# Altium footprint library EISI.PcbLib: 695 footprints (part 32 of 44)
Each footprint in its own frame and in the unit in brackets; x right, y up, seen from the top. Pads: shape width x height; smd on the part's side, far side on the other; paste and mask are expansions set on the pad; w line width, h text height; cw(c..) or ccw(c..) is an arc to the next point about the centre after c.
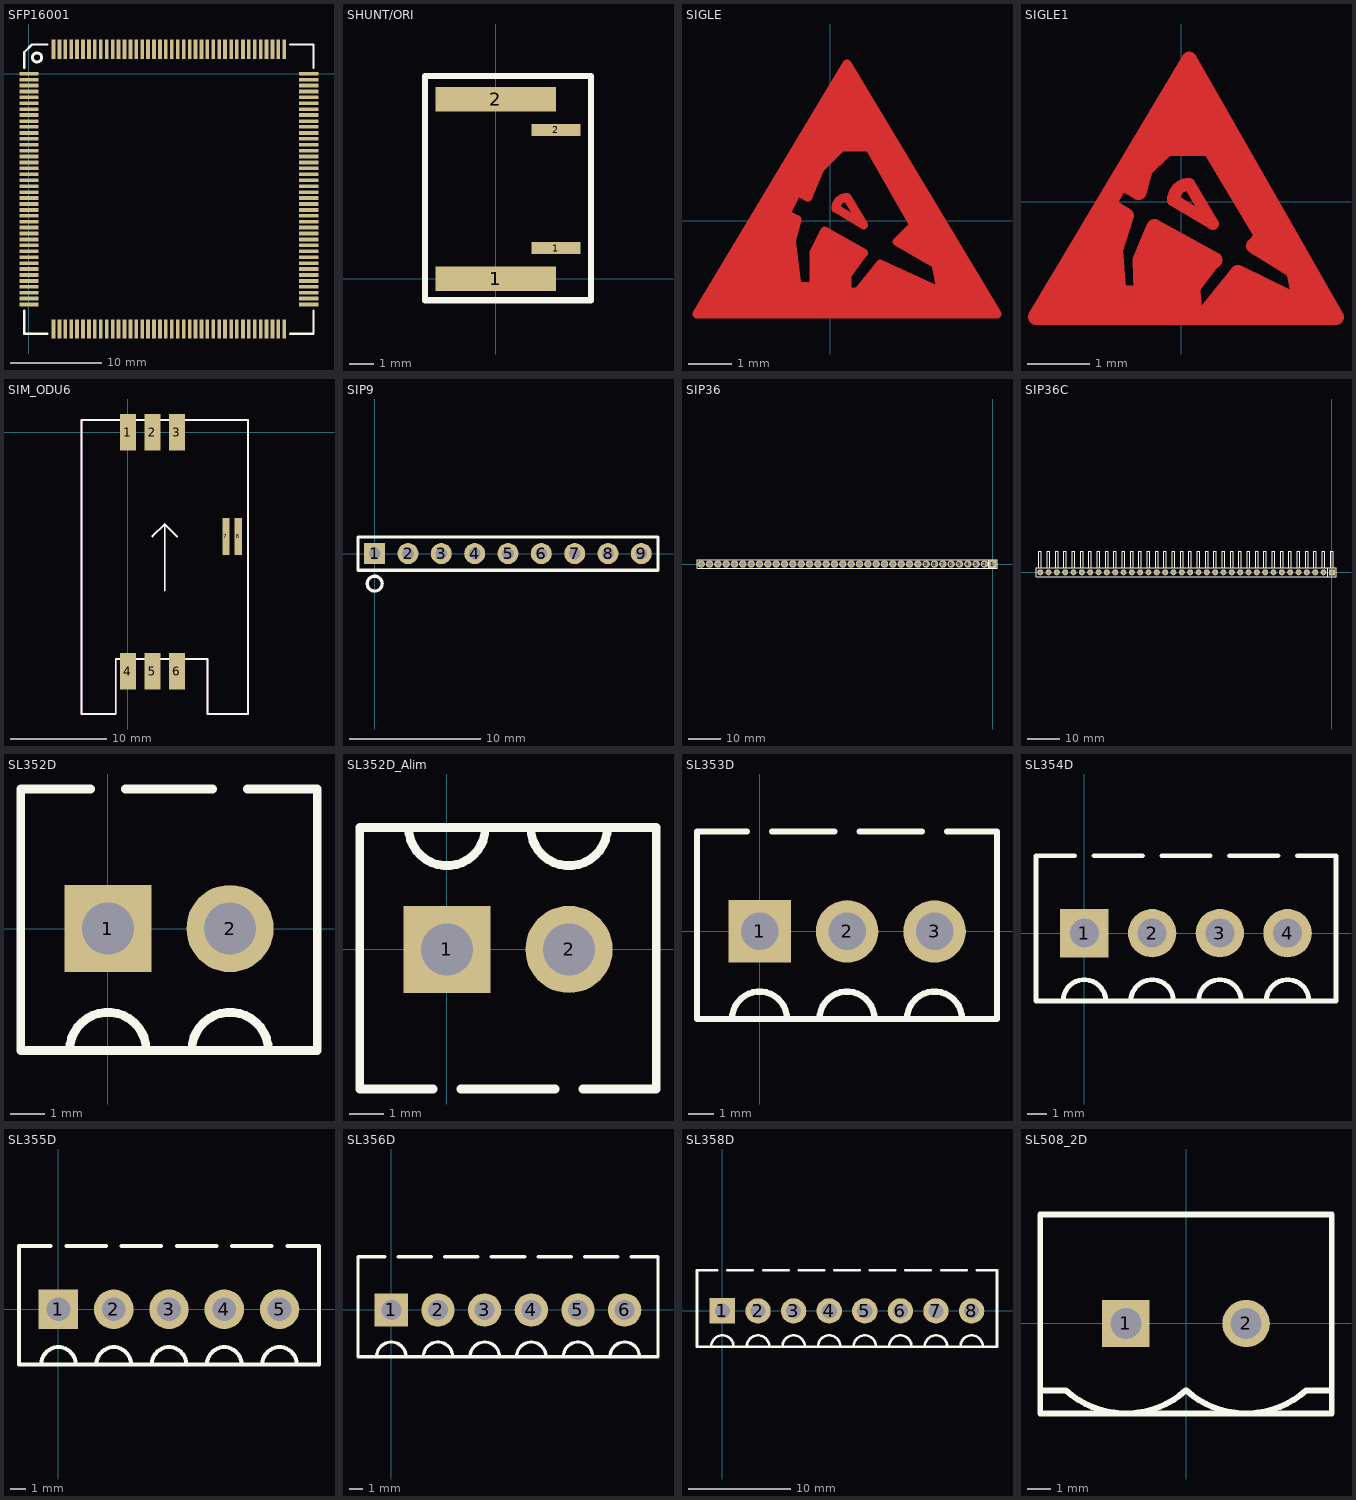
[diagram p31: the footprints below, top view; thin cyan lines are the x and y axes]

## SFP16001 [mil]
pads (320):
  rect 83x16 smd: 1(0,0) 2(0,-26) 3(0,-51) 4(0,-77) 5(0,-102) 6(0,-128) 7(0,-154) 8(0,-179) 9(0,-205) 10(0,-230) 11(0,-256) 12(0,-281) 13(0,-307) 14(0,-333) 15(0,-358) 16(0,-384) 17(0,-409) 18(0,-435) 19(0,-461) 20(0,-486) 21(0,-512) 22(0,-537) 23(0,-563) 24(0,-589) 25(0,-614) 26(0,-640) 27(0,-665) 28(0,-691) 29(0,-717) 30(0,-742) 31(0,-768) 32(0,-793) 33(0,-819) 34(0,-844) 35(0,-870) 36(0,-896) 37(0,-921) 38(0,-947) 39(0,-972) 40(0,-998) 81(1210,-998) 82(1210,-972) 83(1210,-947) 84(1210,-921) 85(1210,-896) 86(1210,-870) 87(1210,-844) 88(1210,-819) 89(1210,-793) 90(1210,-768) 91(1210,-742) 92(1210,-717) 93(1210,-691) 94(1210,-665) 95(1210,-640) 96(1210,-614) 97(1210,-589) 98(1210,-563) 99(1210,-537) 100(1210,-512) 101(1210,-486) 102(1210,-461) 103(1210,-435) 104(1210,-409) 105(1210,-384) 106(1210,-358) 107(1210,-333) 108(1210,-307) 109(1210,-281) 110(1210,-256) 111(1210,-230) 112(1210,-205) 113(1210,-179) 114(1210,-154) 115(1210,-128) 116(1210,-102) 117(1210,-77) 118(1210,-51) 119(1210,-26) 120(1210,0)
  rect 16x83 smd: 41(106,-1104) 42(132,-1104) 43(157,-1104) 44(183,-1104) 45(208,-1104) 46(234,-1104) 47(260,-1104) 48(285,-1104) 49(311,-1104) 50(336,-1104) 51(362,-1104) 52(387,-1104) 53(413,-1104) 54(439,-1104) 55(464,-1104) 56(490,-1104) 57(515,-1104) 58(541,-1104) 59(567,-1104) 60(592,-1104) 61(618,-1104) 62(643,-1104) 63(669,-1104) 64(695,-1104) 65(720,-1104) 66(746,-1104) 67(771,-1104) 68(797,-1104) 69(823,-1104) 70(848,-1104) 71(874,-1104) 72(899,-1104) 73(925,-1104) 74(950,-1104) 75(976,-1104) 76(1002,-1104) 77(1027,-1104) 78(1053,-1104) 79(1078,-1104) 80(1104,-1104) 121(1104,106) 122(1078,106) 123(1053,106) 124(1027,106) 125(1002,106) 126(976,106) 127(950,106) 128(925,106) 129(899,106) 130(874,106) 131(848,106) 132(823,106) 133(797,106) 134(771,106) 135(746,106) 136(720,106) 137(695,106) 138(669,106) 139(643,106) 140(618,106) 141(592,106) 142(567,106) 143(541,106) 144(515,106) 145(490,106) 146(464,106) 147(439,106) 148(413,106) 149(387,106) 150(362,106) 151(336,106) 152(311,106) 153(285,106) 154(260,106) 155(234,106) 156(208,106) 157(183,106) 158(157,106) 159(132,106) 160(106,106)
  rect 60x12 on Top Paste: ""(7.87,-998) ""(7.87,-972) ""(7.87,-947) ""(7.87,-921) ""(7.87,-896) ""(7.87,-870) ""(7.87,-844) ""(7.87,-819) ""(7.87,-793) ""(7.87,-768) ""(7.87,-742) ""(7.87,-717) ""(7.87,-691) ""(7.87,-665) ""(7.87,-640) ""(7.87,-614) ""(7.87,-589) ""(7.87,-563) ""(7.87,-537) ""(7.87,-512) ""(7.87,-486) ""(7.87,-461) ""(7.87,-435) ""(7.87,-409) ""(7.87,-384) ""(7.87,-358) ""(7.87,-333) ""(7.87,-307) ""(7.87,-281) ""(7.87,-256) ""(7.87,-230) ""(7.87,-205) ""(7.87,-179) ""(7.87,-154) ""(7.87,-128) ""(7.87,-102) ""(7.87,-77) ""(7.87,-51) ""(7.87,-26) ""(7.87,0) ""(1202.13,-998) ""(1202.13,-972) ""(1202.13,-947) ""(1202.13,-921) ""(1202.13,-896) ""(1202.13,-870) ""(1202.13,-844) ""(1202.13,-819) ""(1202.13,-793) ""(1202.13,-768) ""(1202.13,-742) ""(1202.13,-717) ""(1202.13,-691) ""(1202.13,-665) ""(1202.13,-640) ""(1202.13,-614) ""(1202.13,-589) ""(1202.13,-563) ""(1202.13,-537) ""(1202.13,-512) ""(1202.13,-486) ""(1202.13,-461) ""(1202.13,-435) ""(1202.13,-409) ""(1202.13,-384) ""(1202.13,-358) ""(1202.13,-333) ""(1202.13,-307) ""(1202.13,-281) ""(1202.13,-256) ""(1202.13,-230) ""(1202.13,-205) ""(1202.13,-179) ""(1202.13,-154) ""(1202.13,-128) ""(1202.13,-102) ""(1202.13,-77) ""(1202.13,-51) ""(1202.13,-26) ""(1202.13,0)
  rect 12x60 on Top Paste: ""(106,-1096.13) ""(106,98.13) ""(132,-1096.13) ""(132,98.13) ""(157,-1096.13) ""(157,98.13) ""(183,-1096.13) ""(183,98.13) ""(208,-1096.13) ""(208,98.13) ""(234,-1096.13) ""(234,98.13) ""(260,-1096.13) ""(260,98.13) ""(285,-1096.13) ""(285,98.13) ""(311,-1096.13) ""(311,98.13) ""(336,-1096.13) ""(336,98.13) ""(362,-1096.13) ""(362,98.13) ""(387,-1096.13) ""(387,98.13) ""(413,-1096.13) ""(413,98.13) ""(439,-1096.13) ""(439,98.13) ""(464,-1096.13) ""(464,98.13) ""(490,-1096.13) ""(490,98.13) ""(515,-1096.13) ""(515,98.13) ""(541,-1096.13) ""(541,98.13) ""(567,-1096.13) ""(567,98.13) ""(592,-1096.13) ""(592,98.13) ""(618,-1096.13) ""(618,98.13) ""(643,-1096.13) ""(643,98.13) ""(669,-1096.13) ""(669,98.13) ""(695,-1096.13) ""(695,98.13) ""(720,-1096.13) ""(720,98.13) ""(746,-1096.13) ""(746,98.13) ""(771,-1096.13) ""(771,98.13) ""(797,-1096.13) ""(797,98.13) ""(823,-1096.13) ""(823,98.13) ""(848,-1096.13) ""(848,98.13) ""(874,-1096.13) ""(874,98.13) ""(899,-1096.13) ""(899,98.13) ""(925,-1096.13) ""(925,98.13) ""(950,-1096.13) ""(950,98.13) ""(976,-1096.13) ""(976,98.13) ""(1002,-1096.13) ""(1002,98.13) ""(1027,-1096.13) ""(1027,98.13) ""(1053,-1096.13) ""(1053,98.13) ""(1078,-1096.13) ""(1078,98.13) ""(1104,-1096.13) ""(1104,98.13)
TopOverlay:
  circle w12: c35,70 r20
  lines w10: -20,-1024 -20,-1124 80,-1124 ; -20,26 -20,93 13,126 80,126 ; 1130,-1124 1230,-1124 1230,-1024 ; 1130,126 1230,126 1230,26
TopSolder:
  rectangle: 96,-1147 1114,-1060
  rectangle: -43,-1008 43,10
  rectangle: 96,63 1114,150
  rectangle: 1166,-1008 1254,10

## SHUNT/ORI [mil]
pads (4):
  rect 196x40 smd: 1(0,0) 2(0,292)
  rect 80x20 smd: 1(98,50) 2(98,242)
TopOverlay:
  lines w10: -115,-35 155,-35 155,330 -115,330 -115,-35

## SIGLE [mm]
TopLayer:
  lines w0.2: -2.667,-1.88 3.302,-1.88 ; -2.54,-1.88 0.381,3.073 ; -1.651,-1.245 -1.524,-1.499 ; -1.524,-1.118 -1.397,-1.372 ; -1.397,-0.864 -1.27,-1.499 -1.778,-1.499 -1.397,-0.737 ; -1.27,-0.483 -1.143,-1.626 -2.032,-1.626 -1.143,-0.102 -1.016,-0.102 -1.143,-0.229 -1.016,-1.753 ; -1.27,0.152 -0.889,-0.102 -1.016,-0.356 -0.889,-1.626 0.254,-1.626 0.254,-1.245 0.635,-0.737 -0.127,-0.356 -0.254,-0.737 -0.127,-1.499 ; -1.016,0.406 -2.286,-1.753 1.905,-1.753 3.302,-1.753 0.508,2.946 ; -1.016,0.533 0.381,2.819 ; -0.635,0.66 -0.381,1.041 ; -0.254,-1.499 -0.254,-0.991 ; -0.254,1.295 0.635,2.565 ; -0.127,-0.483 0,-1.626 ; 0,-0.483 0.127,-1.499 ; 0.127,-0.61 0.254,-1.118 ; 0.127,0.279 0.762,-0.102 0.381,0.533 ; 0.127,1.803 0.889,1.803 ; 0.254,-0.61 0.381,-0.991 ; 0.254,1.93 0.762,1.93 ; 0.381,-0.737 0.508,-0.864 ; 0.381,2.057 0.762,2.057 ; 0.381,2.946 1.143,1.676 3.048,-1.626 ; 0.508,2.184 0.635,2.184 0.635,2.311 ; 0.508,2.692 -0.762,0.66 ; 0.762,-1.753 1.143,-1.118 2.54,-1.753 ; 0.889,-1.626 1.651,-1.626 ; 0.889,1.93 2.159,-0.356 2.921,-1.753 ; 1.016,-1.499 1.524,-1.499 ; 1.143,-1.372 1.27,-1.372 ; 1.143,-1.245 2.159,-1.753 ; 1.778,-0.483 2.286,-0.737 ; 1.778,-0.356 2.159,-0.483 ; 1.905,-0.229 2.032,-0.356 ; 2.54,-1.372 2.667,-1.753 ; 2.667,-1.372 2.794,-1.626 ; -0.762,0.66 -1.016,0.152 -0.762,0.025 -0.889,-0.483 -0.762,-1.499 -0.381,-1.499 -0.381,-0.991 -0.381,-0.737 -0.127,-0.229 0.762,-0.737 0.381,-1.245 0.381,-1.626 0.635,-1.626 1.143,-0.991 2.54,-1.626 2.413,-0.991 1.524,-0.483 1.905,-0.102 0.889,1.676 0.254,1.676 -0.254,1.168 -0.508,0.533 -0.762,0.66 ; -3.048,-2.134 3.81,-2.134 0.381,3.581 -3.048,-2.134 ; -2.794,-2.007 3.556,-2.007 0.381,3.327 -2.794,-2.007
  lines w0.203: 0.127,0.279 cw(c0.381,0.279) 0.381,0.533

## SIGLE1 [mm]
TopLayer:
  lines w0.2: -1.397,-0.483 -1.27,-0.356 -1.397,-0.356 ; -1.27,-0.61 -1.143,-0.356 ; -0.889,0.406 -0.635,0.787 ; -0.508,-1.753 -0.508,-1.245 ; -0.381,-1.753 -0.508,-0.991 -0.381,-0.61 0.381,-0.991 0,-1.499 ; -0.254,-0.737 -0.127,-1.753 ; -0.127,-0.864 0,-1.372 ; -0.127,0.025 0.508,-0.356 0.127,0.279 ; 0,-0.864 0.127,-1.245 ; 0.127,-1.499 0.508,-0.991 -0.381,-0.483 -0.635,-0.991 -0.635,-1.245 -0.635,-1.753 -1.016,-1.753 -1.143,-0.737 -1.016,-0.229 -1.27,-0.102 -1.016,0.406 -0.762,0.279 -0.508,0.914 0,1.422 0.635,1.422 ; 0.127,-0.991 0.254,-1.118 ; 0.381,-1.88 0.889,-1.245 2.286,-1.88 ; 0.762,-1.753 1.27,-1.753 ; 0.889,-1.626 1.016,-1.626 ; 1.27,-0.737 1.651,-0.356
  lines w0.203: -0.127,0.025 cw(c0.127,0.025) 0.127,0.279
  lines w0.254: -1.905,-1.524 -1.473,-1.499 ; -1.854,-1.473 -1.524,-1.092 ; -1.549,-1.295 -1.524,-1.499 ; -1.524,-0.787 -1.397,-1.524 ; -1.346,-0.61 -1.194,-1.702 -2.21,-1.702 -1.27,-0.279 ; -1.219,-0.025 -0.889,-0.229 -1.067,-0.787 -0.991,-1.676 -0.737,-1.676 -0.635,-1.676 -0.66,-0.94 -0.432,-0.406 0.533,-0.94 0.152,-1.245 ; -1.194,-0.102 -0.991,0.305 ; -1.016,0.33 -0.686,0.152 -0.66,0.254 -0.508,0.787 ; -0.991,-1.473 -0.483,-1.473 ; -0.914,0.508 0.127,2.21 ; -0.66,0.635 -0.127,1.143 0.61,1.143 ; -0.635,0.483 -0.229,0.864 0.457,0.864 1.295,-0.533 ; -0.635,0.762 0,1.397 ; -0.406,-0.864 -0.279,-1.676 ; -0.381,1.016 0.559,1.041 ; -0.254,1.27 0.635,1.27 ; -0.203,1.295 0.203,2.083 ; 0,-1.702 0.025,-1.499 ; 0.076,1.448 0.102,1.854 ; 0.127,1.854 0.33,1.473 ; 0.178,-1.321 0.203,-1.753 ; 0.381,-1.803 0.914,-1.143 2.108,-1.727 ; 0.483,1.245 1.397,-0.406 ; 0.584,1.346 1.346,0.076 1.575,-0.305 ; 0.66,-1.727 1.626,-1.727 0.94,-1.473 0.66,-1.626 ; 1.422,-0.635 1.676,-0.813 ; 1.499,-0.356 1.168,-0.711 2.032,-1.245 ; 1.524,-0.508 2.235,-1.727 ; 1.829,-1.168 1.905,-1.575 ; -2.337,-1.854 2.489,-1.854 0.127,2.286 -2.337,-1.854

## SIM_ODU6 [mil]
pads (8):
  rect 65x150 smd: 1(0.29,-0.26) 2(100.29,-0.26) 3(200.29,-0.26) 4(0.29,-975.26) 5(100.29,-975.26) 6(200.29,-975.26)
  rect 30x150 smd: 7(400.29,-425.26) 8(450.29,-425.26)
TopOverlay:
  lines w7.87: 100.29,-425.26 150.29,-375.26 ; 150.29,-645.26 150.29,-375.26 ; 200.29,-425.26 150.29,-375.26 ; -189.71,-1150.26 -49.71,-1150.26 -49.71,-925.26 325.29,-925.26 325.29,-1150.26 490.29,-1150.26 490.29,-1090.26 490.29,49.74 -189.71,49.74 -189.71,-1150.26
  text ".Designator" at 0.29,-362.76 h56.25
Mechanical1:
  lines w7.87: 100.29,-425.26 150.29,-375.26 ; 100.29,-425.26 150.29,-375.26 ; 100.29,-425.26 150.29,-375.26 ; 150.29,-645.26 150.29,-375.26 ; 150.29,-645.26 150.29,-375.26 ; 150.29,-645.26 150.29,-375.26 ; 150.29,-375.26 200.29,-425.26 ; 150.29,-375.26 200.29,-425.26 ; 150.29,-375.26 200.29,-425.26 ; -189.71,-1150.26 -49.71,-1150.26 -49.71,-925.26 325.29,-925.26 325.29,-1150.26 490.29,-1150.26 490.29,-1090.26 490.29,49.74 -189.71,49.74 -189.71,-1150.26
  text ".Designator" at 0.29,-362.76 h56.25
  text ".Comment" at 0.29,-475.26 h56.25
  text "SM/SCH_ODU6" at -149.71,-700.26 h56.25

## SIP9 [mm] "SIP9"
height 5.08
pads (9):
  rect 1.6x1.6 hole 0.9: 1(0,0)
  round 1.6 hole 0.9: 2(2.54,0) 3(5.08,0) 4(7.62,0) 5(10.16,0) 6(12.7,0) 7(15.24,0) 8(17.78,0) 9(20.32,0)
TopOverlay:
  circle w0.25: c0,-2.286 r0.568
  lines w0.25: -1.27,-1.27 -1.27,1.27 21.59,1.27 21.59,0 21.59,-1.27 -1.27,-1.27

## SIP36 [mm]
pads (36):
  rect 2.3x2.3 hole 1.4 unplated: 1(0,0)
  round 2.3 hole 1.4 unplated: 2(-2.54,0) 3(-5.08,0) 4(-7.62,0) 5(-10.16,0) 6(-12.7,0) 7(-15.24,0) 8(-17.78,0) 9(-20.32,0) 10(-22.86,0) 11(-25.4,0) 12(-27.94,0) 13(-30.48,0) 14(-33.02,0) 15(-35.56,0) 16(-38.1,0) 17(-40.64,0) 18(-43.18,0) 19(-45.72,0) 20(-48.26,0) 21(-50.8,0) 22(-53.34,0) 23(-55.88,0) 24(-58.42,0) 25(-60.96,0) 26(-63.5,0) 27(-66.04,0) 28(-68.58,0) 29(-71.12,0) 30(-73.66,0) 31(-76.2,0) 32(-78.74,0) 33(-81.28,0) 34(-83.82,0) 35(-86.36,0) 36(-88.9,0)
TopOverlay:
  lines w0.2: -1.27,-1.27 -1.27,1.27 ; -90.17,-1.27 -90.17,1.27 -85.09,1.27 -59.69,1.27 -54.61,1.27 -49.53,1.27 1.27,1.27 1.27,-1.27 -49.53,-1.27 -54.61,-1.27 -59.69,-1.27 -85.09,-1.27 -90.17,-1.27

## SIP36C [mm]
pads (36):
  rect 1.8x1.8 hole 0.94 unplated: 1(0,0)
  round 1.8 hole 0.94 unplated: 2(-2.54,0) 3(-5.08,0) 4(-7.62,0) 5(-10.16,0) 6(-12.7,0) 7(-15.24,0) 8(-17.78,0) 9(-20.32,0) 10(-22.86,0) 11(-25.4,0) 12(-27.94,0) 13(-30.48,0) 14(-33.02,0) 15(-35.56,0) 16(-38.1,0) 17(-40.64,0) 18(-43.18,0) 19(-45.72,0) 20(-48.26,0) 21(-50.8,0) 22(-53.34,0) 23(-55.88,0) 24(-58.42,0) 25(-60.96,0) 26(-63.5,0) 27(-66.04,0) 28(-68.58,0) 29(-71.12,0) 30(-73.66,0) 31(-76.2,0) 32(-78.74,0) 33(-81.28,0) 34(-83.82,0) 35(-86.36,0) 36(-88.9,0)
TopOverlay:
  lines w0.2: -89.281,1.397 -89.281,6.477 -88.519,6.477 -88.519,1.397 ; -86.741,1.397 -86.741,6.477 -85.979,6.477 -85.979,1.397 ; -84.201,1.397 -84.201,6.477 -83.439,6.477 -83.439,1.397 ; -81.661,1.397 -81.661,6.477 -80.899,6.477 -80.899,1.397 ; -79.121,1.397 -79.121,6.477 -78.359,6.477 -78.359,1.397 ; -76.581,1.397 -76.581,6.477 -75.819,6.477 -75.819,1.397 ; -74.041,1.397 -74.041,6.477 -73.279,6.477 -73.279,1.397 ; -71.501,1.397 -71.501,6.477 -70.739,6.477 -70.739,1.397 ; -68.961,1.397 -68.961,6.477 -68.199,6.477 -68.199,1.397 ; -66.421,1.397 -66.421,6.477 -65.659,6.477 -65.659,1.397 ; -63.881,1.397 -63.881,6.477 -63.119,6.477 -63.119,1.397 ; -61.341,1.397 -61.341,6.477 -60.579,6.477 -60.579,1.397 ; -58.801,1.397 -58.801,6.477 -58.039,6.477 -58.039,1.397 ; -56.261,1.397 -56.261,6.477 -55.499,6.477 -55.499,1.397 ; -53.721,1.397 -53.721,6.477 -52.959,6.477 -52.959,1.397 ; -51.181,1.397 -51.181,6.477 -50.419,6.477 -50.419,1.397 ; -48.641,1.397 -48.641,6.477 -47.879,6.477 -47.879,1.397 ; -46.101,1.397 -46.101,6.477 -45.339,6.477 -45.339,1.397 ; -43.561,1.397 -43.561,6.477 -42.799,6.477 -42.799,1.397 ; -41.021,1.397 -41.021,6.477 -40.259,6.477 -40.259,1.397 ; -38.481,1.397 -38.481,6.477 -37.719,6.477 -37.719,1.397 ; -35.941,1.397 -35.941,6.477 -35.179,6.477 -35.179,1.397 ; -33.401,1.397 -33.401,6.477 -32.639,6.477 -32.639,1.397 ; -30.861,1.397 -30.861,6.477 -30.099,6.477 -30.099,1.397 ; -28.321,1.397 -28.321,6.477 -27.559,6.477 -27.559,1.397 ; -25.781,1.397 -25.781,6.477 -25.019,6.477 -25.019,1.397 ; -23.241,1.397 -23.241,6.477 -22.479,6.477 -22.479,1.397 ; -20.701,1.397 -20.701,6.477 -19.939,6.477 -19.939,1.397 ; -18.161,1.397 -18.161,6.477 -17.399,6.477 -17.399,1.397 ; -15.621,1.397 -15.621,6.477 -14.859,6.477 -14.859,1.397 ; -13.081,1.397 -13.081,6.477 -12.319,6.477 -12.319,1.397 ; -10.541,1.397 -10.541,6.477 -9.779,6.477 -9.779,1.397 ; -8.001,1.397 -8.001,6.477 -7.239,6.477 -7.239,1.397 ; -5.461,1.397 -5.461,6.477 -4.699,6.477 -4.699,1.397 ; -2.921,1.397 -2.921,6.477 -2.159,6.477 -2.159,1.397 ; -1.27,-1.397 -1.27,1.397 ; -0.381,1.397 -0.381,6.477 0.381,6.477 0.381,1.397 ; -90.17,-1.397 -90.17,1.397 1.27,1.397 1.27,-1.397 -90.17,-1.397

## SL352D [mm]
height 11.1
pads (2):
  rect 2.5x2.5 hole 1.5: 1(0,0)
  round 2.5 hole 1.5: 2(3.5,0)
TopOverlay:
  lines w0.25: -2.5,4 -0.5,4 ; 0.5,4 3,4 ; 4,4 6,4
  lines w0.254: -2.5,4 -2.5,-3.5 6,-3.5 6,4 ; -1.1,-3.5 cw(c0,-3.5) 1.1,-3.5 ; 2.4,-3.5 cw(c3.5,-3.5) 4.6,-3.5

## SL352D_Alim [mm]
height 11.1
pads (2):
  rect 2.5x2.5 hole 1.5: 1(0,0)
  round 2.5 hole 1.5: 2(3.5,0)
TopOverlay:
  lines w0.25: -2.5,-4 -0.4,-4 ; 0.4,-4 3.1,-4 ; 3.9,-4 6,-4
  lines w0.254: -2.5,-4 -2.5,3.5 6,3.5 6,-4 ; -1.1,3.5 ccw(c0,3.5) 1.1,3.5 ; 2.4,3.5 ccw(c3.5,3.5) 4.6,3.5

## SL353D [mm]
height 11.1
pads (3):
  rect 2.5x2.5 hole 1.5: 1(0,0)
  round 2.5 hole 1.5: 2(3.5,0) 3(7,0)
TopOverlay:
  lines w0.25: -2.5,4 -0.5,4 ; 0.5,4 3,4 ; 4,4 6.5,4 ; 7.5,4 9.5,4
  lines w0.254: -2.5,4 -2.5,-3.5 9.5,-3.5 9.5,4 ; -1.1,-3.5 cw(c0,-3.5) 1.1,-3.5 ; 2.4,-3.5 cw(c3.5,-3.5) 4.6,-3.5 ; 5.9,-3.5 cw(c7,-3.5) 8.1,-3.5

## SL354D [mm]
height 11.1
pads (4):
  rect 2.5x2.5 hole 1.5: 1(0,0)
  round 2.5 hole 1.5: 2(3.5,0) 3(7,0) 4(10.5,0)
TopOverlay:
  lines w0.25: -2.5,4 -0.5,4 ; 0.5,4 3,4 ; 4,4 6.5,4 ; 7.5,4 10,4 ; 11,4 13,4
  lines w0.254: -2.5,4 -2.5,-3.5 13,-3.5 13,4 ; -1.1,-3.5 cw(c0,-3.5) 1.1,-3.5 ; 2.4,-3.5 cw(c3.5,-3.5) 4.6,-3.5 ; 5.9,-3.5 cw(c7,-3.5) 8.1,-3.5 ; 9.4,-3.5 cw(c10.5,-3.5) 11.6,-3.5

## SL355D [mm]
pads (5):
  rect 2.5x2.5 hole 1.5: 1(0,0)
  round 2.5 hole 1.5: 2(3.5,0) 3(7,0) 4(10.5,0) 5(14,0)
TopOverlay:
  lines w0.254: -1.1,-3.5 cw(c0,-3.5) 1.1,-3.5 ; -0.5,4 -2.5,4 -2.5,-3.5 16.5,-3.5 16.5,4 14.5,4 ; 0.5,4 3,4 ; 2.4,-3.5 cw(c3.5,-3.5) 4.6,-3.5 ; 4,4 6.5,4 ; 5.9,-3.5 cw(c7,-3.5) 8.1,-3.5 ; 7.5,4 10,4 ; 9.4,-3.5 cw(c10.5,-3.5) 11.6,-3.5 ; 11,4 13.5,4 ; 12.9,-3.5 cw(c14,-3.5) 15.1,-3.5

## SL356D [mm]
pads (6):
  rect 2.5x2.5 hole 1.5: 1(0,0)
  round 2.5 hole 1.5: 2(3.5,0) 3(7,0) 4(10.5,0) 5(14,0) 6(17.5,0)
TopOverlay:
  lines w0.254: -1.1,-3.5 cw(c0,-3.5) 1.1,-3.5 ; -0.5,4 -2.5,4 -2.5,-3.5 20,-3.5 20,4 18,4 ; 0.5,4 3,4 ; 2.4,-3.5 cw(c3.5,-3.5) 4.6,-3.5 ; 4,4 6.5,4 ; 5.9,-3.5 cw(c7,-3.5) 8.1,-3.5 ; 7.5,4 10,4 ; 9.4,-3.5 cw(c10.5,-3.5) 11.6,-3.5 ; 11,4 13.5,4 ; 12.9,-3.5 cw(c14,-3.5) 15.1,-3.5 ; 14.5,4 17,4 ; 16.4,-3.5 cw(c17.5,-3.5) 18.6,-3.5

## SL358D [mm]
pads (8):
  rect 2.5x2.5 hole 1.5: 1(0,0)
  round 2.5 hole 1.5: 2(3.5,0) 3(7,0) 4(10.5,0) 5(14,0) 6(17.5,0) 7(21,0) 8(24.5,0)
TopOverlay:
  lines w0.254: -1.1,-3.5 cw(c0,-3.5) 1.1,-3.5 ; -0.5,4 -2.5,4 -2.5,-3.5 27,-3.5 27,4 25,4 ; 0.5,4 3,4 ; 2.4,-3.5 cw(c3.5,-3.5) 4.6,-3.5 ; 4,4 6.5,4 ; 5.9,-3.5 cw(c7,-3.5) 8.1,-3.5 ; 7.5,4 10,4 ; 9.4,-3.5 cw(c10.5,-3.5) 11.6,-3.5 ; 11,4 13.5,4 ; 12.9,-3.5 cw(c14,-3.5) 15.1,-3.5 ; 14.5,4 17,4 ; 16.4,-3.5 cw(c17.5,-3.5) 18.6,-3.5 ; 18,4 20.5,4 ; 19.9,-3.5 cw(c21,-3.5) 22.1,-3.5 ; 21.5,4 24,4 ; 23.4,-3.5 cw(c24.5,-3.5) 25.6,-3.5

## SL508_2D [mm] "Weidmuller SL 5.08/02/180B"
height 12
pads (2):
  rect 2x2 hole 1.3: 1(-2.54,0)
  round 2 hole 1.3: 2(2.54,0)
TopOverlay:
  lines w0.25: -6.16,-2.9 -6.098,-2.838 -5.067,-2.838 ; 5.067,-2.838 6.098,-2.838 6.16,-2.9 ; -6.16,-3.8 6.16,-3.8 6.16,4.6 -6.16,4.6 -6.16,-3.8
  lines w0.254: -5.067,-2.838 ccw(c-2.54,0) -0.013,-2.838 ; 0.013,-2.838 ccw(c2.54,0) 5.067,-2.838